# EAGLE library part SM1222_DO_16XRELAIS (library e-sps)
SM 1222 DO 16 x RELAIS Source: s71200_easy_book_de-DE_de-DE.pdf
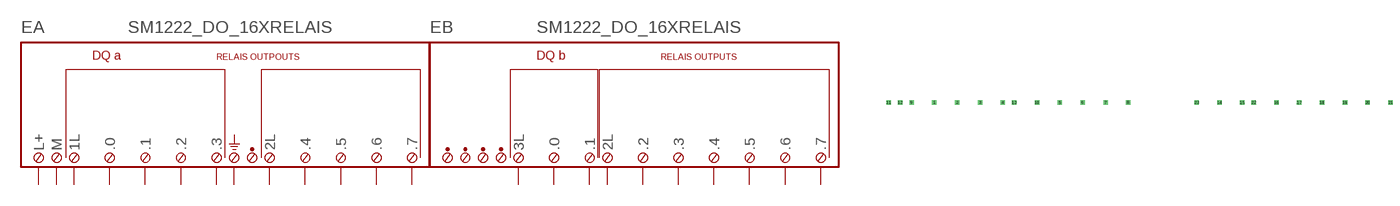
[diagram p8: symbol with the pads of SM1222_DO_16XRELAIS; footprint SM1222_DO_16XRELAIS]

Designator prefix E; gates A=SM1222_DO_16XRELAIS-1 B=SM1222_DO_16XRELAIS-2

## SM1222_DO_16XRELAIS  [SM1222_DO_16XRELAIS]
1  A:.0  pas
2  A:.1  pas
3  A:.2  pas
4  A:.3  pas
5  A:.4  pas
6  A:.5  pas
7  A:.6  pas
8  A:.7  pas
9  A:1L  pas
10  A:2L  pas
11  A:L+  pas
12  A:M  pas
13  A:PE  pas
14  B:.0  pas
15  B:.1  pas
16  B:.2  pas
17  B:.3  pas
18  B:.4  pas
19  B:.5  pas
20  B:.6  pas
21  B:.7  pas
22  B:2L  pas
23  B:3L  pas

## Footprint SM1222_DO_16XRELAIS (pad centres in mm)
Dummy
drill 0.5 pad 1 square: 1 -45.72,-20.32; 2 -40.64,-20.32; 3 -35.56,-20.32; 4 -30.48,-20.32; 5 -17.78,-20.32; 6 -12.7,-20.32; 7 -7.62,-20.32; 8 -2.54,-20.32; 9 -50.8,-20.32; 10 -22.86,-20.32; 11 -55.88,-20.32; 12 -53.34,-20.32; 13 -27.94,-20.32; 14 17.78,-20.32; 15 22.86,-20.32; 16 30.48,-20.32; 17 35.56,-20.32; 18 40.64,-20.32; 19 45.72,-20.32; 20 50.8,-20.32; 21 55.88,-20.32; 22 25.4,-20.32; 23 12.7,-20.32